# Altium footprint library LPC824+RC663.PcbLib: 34 footprints (part 1 of 3)
Each footprint in its own frame and in the unit in brackets; x right, y up, seen from the top. Pads: shape width x height; smd on the part's side, far side on the other; paste and mask are expansions set on the pad; w line width, h text height; cw(c..) or ccw(c..) is an arc to the next point about the centre after c.
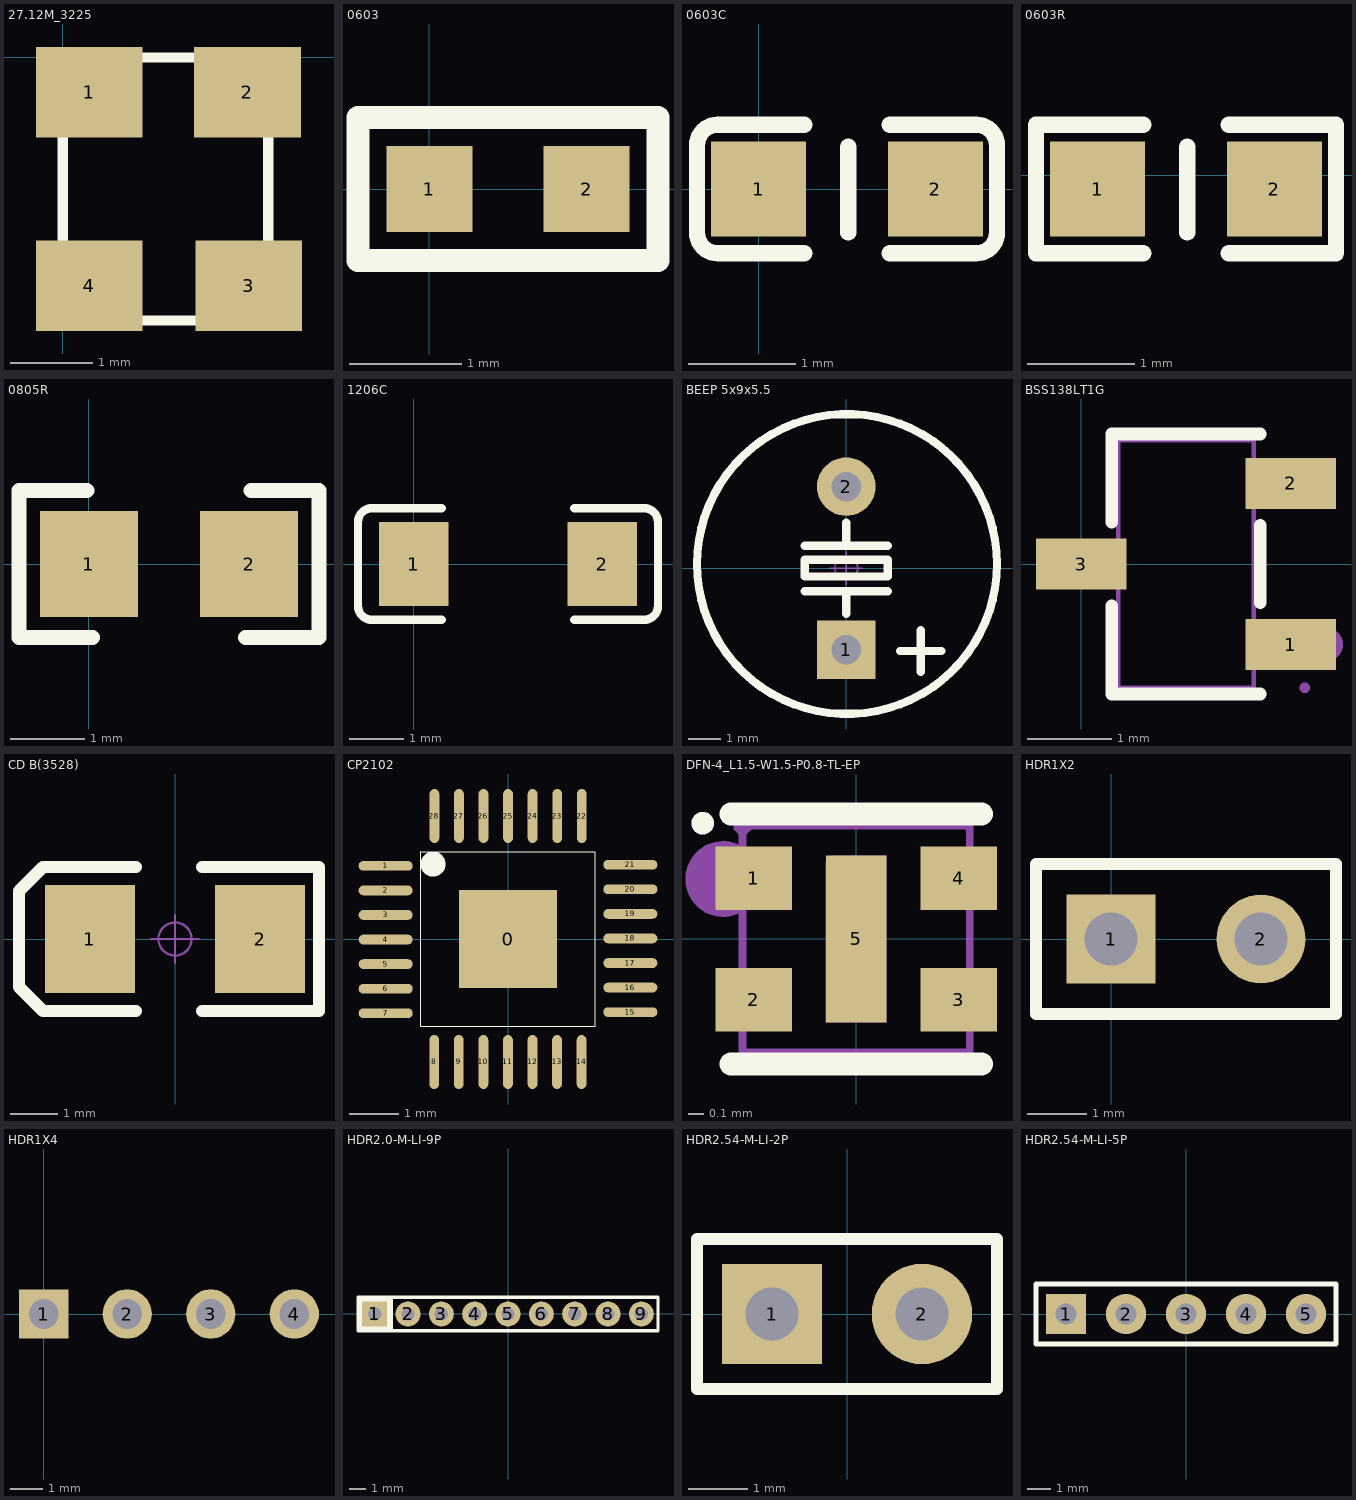
[diagram p0: the footprints below, top view; thin cyan lines are the x and y axes]

## 27.12M_3225 [mm]
height 12
pads (4):
  rect 1.3x1.1 smd: 1(0.325,-0.425) 2(2.25,-0.425) 3(2.265,-2.775) 4(0.325,-2.775)
Top Overlay:
  lines w0.127: 0,-3.2 2.5,-3.2 2.5,0 0,0 0,-3.2

## 0603 [mil]
height 43.31
pads (2):
  rect 30x30 smd: 1(0,0) 2(55,0)
Top Overlay:
  lines w8: -25,-25 80,-25 80,25 -25,25 -25,-25

## 0603C [mil]
pads (2):
  rect 35x35 smd: 1(0,0) 2(65,0)
Top Overlay:
  lines w6: 16.75,-23.62 -15,-23.62 cw(c-15,-16) -22.62,-16 -22.62,16 cw(c-15,16) -15,23.62 16.75,23.62 ; 33,-16 33,15.5 ; 48.25,-23.62 80,-23.62 ccw(c80,-16) 87.62,-16 87.62,16 ccw(c80,16) 80,23.62 48.25,23.62

## 0603R [mil]
pads (2):
  rect 35x35 smd: 1(60,-5) 2(125,-5)
Top Overlay:
  lines w6: 76.75,-28.62 37.38,-28.62 37.38,18.62 76.75,18.62 ; 93,-21 93,10.5 ; 108.24,-28.62 147.61,-28.62 147.61,18.62 108.24,18.62

## 0805R [mil]
pads (2):
  rect 52x56 smd: 1(0,0) 2(85,0)
Top Overlay:
  lines w8: -1,39 -37,39 -37,-39 2,-39 ; 83,-39 122,-39 122,39 86,39

## 1206C [mil]
pads (2):
  rect 50x60 smd: 1(0,0) 2(135,0)
Top Overlay:
  lines w6: 20,-40 -30,-40 cw(c-30,-30) -40,-30 -40,30 cw(c-30,30) -30,40 20,40 ; 115,-40 165,-40 ccw(c165,-30) 175,-30 175,30 ccw(c165,30) 165,40 115,40

## BEEP 5x9x5.5 [mm] "5*9*5.5mm(脚距,直径,高度)"
pads (2):
  rect 1.8x1.8 hole 0.9: 1(0,-2.5)
  round 1.8 hole 0.9: 2(0,2.5)
Top Overlay:
  circle w0.254: c0.023,0.127 r4.6
  lines w0.254: -1.27,-0.709 1.27,-0.709 ; -1.27,0.685 1.27,0.685 ; 0,-1.397 0,-0.709 ; 0,0.812 0,1.397 ; 1.651,-2.54 2.921,-2.54 ; 2.286,-3.175 2.286,-1.905 ; -1.27,-0.254 1.27,-0.254 1.27,0.254 -1.27,0.254 -1.27,-0.254
Mechanical 15:
  circle w0.05: c0,0 r0.35
  lines w0.05: -0.5,0 0.5,0 ; 0,-0.5 0,0.5
3D body "BEEP 5x9x5.5.STEP": height 5.45, standoff -3.55, extent -4.5,-4.5 4.5,4.5

## BSS138LT1G [mm]
pads (3):
  rect 1.07x0.6 smd: 1(2.47,-0.95) 2(2.47,0.95) 3(0,0)
Top Overlay:
  lines w0.152: 0.359,-0.495 0.359,-1.536 2.111,-1.536 ; 0.359,0.495 0.359,1.536 2.111,1.536 ; 2.111,-0.455 2.111,0.455
Mechanical 6:
  circle w0.2: c2.886,-0.95 r0.1
Mechanical 15:
  region: 2.185,-1.15 2.185,-0.75 2.635,-0.75 2.635,-1.15
  region: 2.025,-1.15 2.025,-0.75 2.195,-0.75 2.195,-1.15
  region: 2.185,0.75 2.185,1.15 2.635,1.15 2.635,0.75
  region: 2.025,0.75 2.025,1.15 2.195,1.15 2.195,0.75
  region: 0.285,-0.2 0.285,0.2 -0.165,0.2 -0.165,-0.2
  region: 0.275,-0.2 0.275,0.2 0.445,0.2 0.445,-0.2
  region: 2.695,-1.46 2.694,-1.436 2.659,-1.401 2.61,-1.401 2.575,-1.436 2.575,-1.46 2.575,-1.484 2.61,-1.519 2.659,-1.519 2.694,-1.484 2.695,-1.46
  lines w0.051: 0.435,-1.46 0.435,1.46 2.035,1.46 2.035,-1.46 0.435,-1.46

## CD B(3528) [mil] "长3.5mm，宽2.8mm，厚1.9mm"
pads (2):
  rect 75x90 smd: 1(-70.87,-0.01) 2(70.86,-0.01)
Top Overlay:
  lines w10: -32.51,-60 -110,-60 -130,-40 -130,40 -110,60 -32.51,60 ; 22.49,-60 120,-60 120,60 22.49,60
Mechanical 15:
  circle w1.97: c0,0 r13.78
  lines w1.97: -19.68,0 19.68,0 ; 0,-19.68 0,19.68
3D body "CD B(3528).STEP": height 74.84, standoff -0.3, extent -68.92,-55.12 68.91,55.11

## CP2102 [mm]
pads (29):
  rect 2x2 smd: 0(0,0)
  oval 1.1x0.2 smd: 1(-2.489,1.489) 2(-2.489,0.989) 3(-2.489,0.489) 4(-2.489,-0.011) 5(-2.489,-0.511) 6(-2.489,-1.011) 7(-2.489,-1.511) 15(2.489,-1.489) 16(2.489,-0.989) 17(2.489,-0.489) 18(2.489,0.011) 19(2.489,0.511) 20(2.489,1.011) 21(2.489,1.511)
  oval 0.2x1.1 smd: 8(-1.501,-2.502) 9(-1.001,-2.502) 10(-0.501,-2.502) 11(-0.001,-2.502) 12(0.499,-2.502) 13(0.999,-2.502) 14(1.499,-2.502) 22(1.501,2.502) 23(1.001,2.502) 24(0.501,2.502) 25(0.001,2.502) 26(-0.499,2.502) 27(-0.999,2.502) 28(-1.499,2.502)
Top Overlay:
  circle w0.254: c-1.524,1.524 r0.127
  lines w0.025: -1.778,-1.778 1.778,-1.778 1.778,1.778 -1.778,1.778 -1.778,-1.778

## DFN-4_L1.5-W1.5-P0.8-TL-EP [mm]
pads (5):
  rect 0.505x0.42 smd: 1(-0.677,0.4) 2(-0.677,-0.4) 3(0.677,-0.4) 4(0.677,0.4)
  rect 0.4x1.1 smd: 5(0,0)
Top Overlay:
  circle w0.075: c-1.013,0.765 r0.038
  lines w0.152: -0.826,-0.826 0.826,-0.826 ; -0.826,0.826 0.826,0.826
Mechanical 6:
  circle w0.25: c-0.879,0.396 r0.125
Mechanical 15:
  region: -0.75,0.25 -0.45,0.25 -0.45,0.55 -0.75,0.55
  region: -0.75,-0.55 -0.45,-0.55 -0.45,-0.25 -0.75,-0.25
  region: 0.75,-0.55 0.45,-0.55 0.45,-0.25 0.75,-0.25
  region: 0.75,0.25 0.45,0.25 0.45,0.55 0.75,0.55
  region: -0.16,0.55 0.2,0.55 0.2,-0.55 -0.2,-0.55 -0.2,0.51
  region: -0.69,0.75 -0.691,0.775 -0.726,0.809 -0.775,0.809 -0.809,0.775 -0.81,0.75 -0.81,0.726 -0.775,0.691 -0.726,0.691 -0.691,0.726
  lines w0.051: -0.75,-0.75 0.75,-0.75 0.75,0.75 -0.75,0.75 -0.75,-0.75

## HDR1X2 [mm] "Connector; Header; 2 Position"
pads (2):
  rect 1.5x1.5 hole 0.9: 1(0,0)
  round 1.5 hole 0.9: 2(2.54,0)
Top Overlay:
  lines w0.2: -1.27,-1.27 -1.27,1.27 3.81,1.27 3.81,-1.27 -1.27,-1.27

## HDR1X4 [mm] "Connector; Header; 4 Position"
pads (4):
  rect 1.5x1.5 hole 0.9: 1(0,0)
  round 1.5 hole 0.9: 2(2.54,0) 3(5.08,0) 4(7.62,0)

## HDR2.0-M-LI-9P [mm] "直插排母，脚距：2.0mm"
pads (9):
  rect 1.5x1.5 hole 0.8: 1(-8,0)
  round 1.5 hole 0.8: 2(-6,0) 3(-4,0) 4(-2,0) 5(0,0) 6(2,0) 7(4,0) 8(6,0) 9(8,0)
Top Overlay:
  rectangle: -9,-1 -7,1
  lines w0.2: -7,-1 -7,1 ; -9,-1 9,-1 9,1 -9,1 -9,-1
3D body "HDR2.0-M-LI-9P.STEP": height 5.5, standoff -2.27, extent -9,-1 9,1

## HDR2.54-M-LI-2P [mm] "排母，2脚"
pads (2):
  rect 1.7x1.7 hole 0.9: 1(-1.27,0)
  round 1.7 hole 0.9: 2(1.27,0)
Top Overlay:
  lines w0.2: -2.54,-1.27 -2.54,1.27 2.54,1.27 2.54,-1.27 -2.54,-1.27
3D body "HDR2.54-1P_M.STEP": height 8.5, standoff -3, extent -2.54,-1.27 0,1.27
3D body "HDR2.54-1P_M.STEP": height 8.5, standoff -3, extent 0,-1.27 2.54,1.27

## HDR2.54-M-LI-5P [mm] "排母，5脚"
pads (5):
  rect 1.7x1.7 hole 0.9: 1(-5.08,0)
  round 1.7 hole 0.9: 2(-2.54,0) 3(0,0) 4(2.54,0) 5(5.08,0)
Top Overlay:
  lines w0.2: -6.35,-1.27 -6.35,1.27 6.35,1.27 6.35,-1.27 -6.35,-1.27
3D body "HDR2.54-1P_M.STEP": height 8.5, standoff -3, extent 3.81,-1.27 6.35,1.27
3D body "HDR2.54-1P_M.STEP": height 8.5, standoff -3, extent -1.27,-1.27 1.27,1.27
3D body "HDR2.54-1P_M.STEP": height 8.5, standoff -3, extent 1.27,-1.27 3.81,1.27
3D body "HDR2.54-1P_M.STEP": height 8.5, standoff -3, extent -6.35,-1.27 -3.81,1.27
3D body "HDR2.54-1P_M.STEP": height 8.5, standoff -3, extent -3.81,-1.27 -1.27,1.27